# EAGLE library part LTC6752ISC6-1 (library LTC6752ISC6-1)
Check availability <https://pricing.snapeda.com/parts/LTC6752ISC6-1/Analog%20Devices%20Inc./view-part?ref=eda>
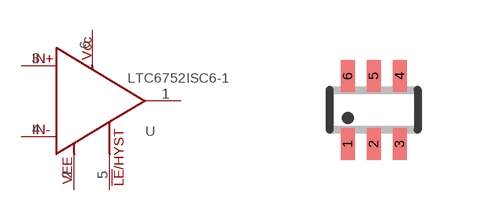
[diagram p0: symbol with the pads of SC70-6; footprint SC70-6]

Designator prefix U

## LTC6752ISC6-1 (Availability: In Stock; Check_prices: https://www.snapeda.com/parts/LTC6752ISC6-1/Analog+Devices/view-part/?ref=eda; Description: Comparator Single R-R I/P 3.5V 6-Pin SC-70 T/R; MF: Analog Devices Inc.; MP: LTC6752ISC6-1; Package: None; Price: None; SnapEDA_Link: https://www.snapeda.com/parts/LTC6752ISC6-1/Analog+Devices/view-part/?ref=snap)  [SC70-6]
1  OUT
2  VEE
3  IN+
4  IN-
5  HYST
6  VCC

## Footprint SC70-6 (pad centres in mm)
smd 0.35 x 0.8: 1 -0.65,-0.85; 2 0,-0.85; 3 0.65,-0.85; 4 0.65,0.85; 5 0,0.85; 6 -0.65,0.85